# EAGLE library part LXDC55BAAC* (library NewSDR)
Murata 3A Micro DC-DC Converter
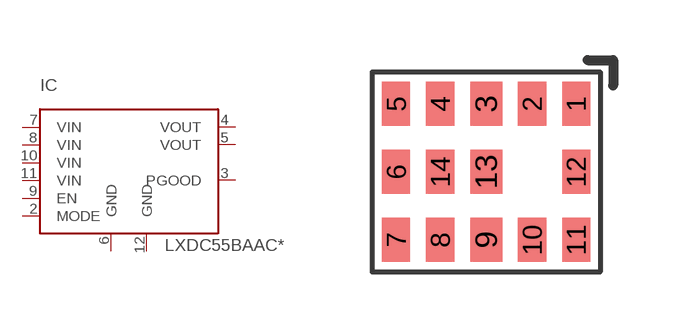
[diagram p186: symbol with the pads of LXDC55BAAC; footprint LXDC55BAAC]

Designator prefix IC

## LXDC55BAAC-067 (VOLTAGE: 3.3V), LXDC55BAAC-158 (VOLTAGE: 1.8V)  [LXDC55BAAC]
2  MODE  in
3  PGOOD  oc
4  VOUT  pwr
5  VOUT  pwr
6  GND  pwr
7  VIN  pwr
8  VIN  pwr
9  EN  in
10  VIN  pwr
11  VIN  pwr
12  GND  pwr

## Footprint LXDC55BAAC (pad centres in mm)
Murata 3A Micro DC-DC Convertaer
smd 0.7 x 1.1: 1 2.25,1.7; 2 1.15,1.7; 4 -1.15,1.7; 5 -2.25,1.7; 6 -2.25,0; 7 -2.25,-1.7; 8 -1.15,-1.7; 10 1.15,-1.7; 11 2.25,-1.7; 12 2.25,0; 14 -1.15,0
smd 0.8 x 1.1: 3 0,1.7; 9 0,-1.7; 13 0,0